# Altium footprint library Модули.PcbLib: 2 footprints
Each footprint in its own frame and in the unit in brackets; x right, y up, seen from the top. Pads: shape width x height; smd on the part's side, far side on the other; paste and mask are expansions set on the pad; w line width, h text height; cw(c..) or ccw(c..) is an arc to the next point about the centre after c.
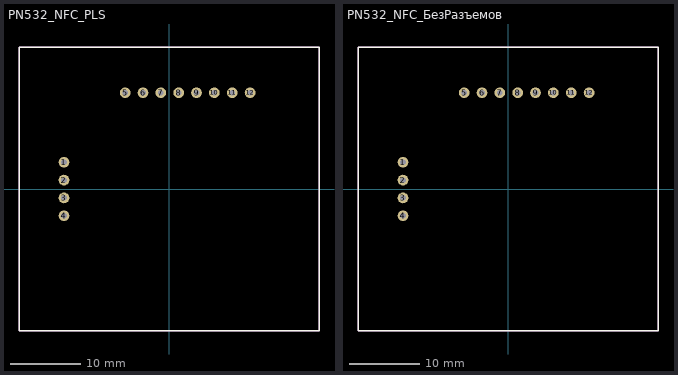
[diagram p0: the footprints below, top view; thin cyan lines are the x and y axes]

## PN532_NFC_PLS [mm]
pads (12):
  round 1.524 hole 0.8: 1(-14.95,3.81) 2(-14.95,1.27) 3(-14.95,-1.27) 4(-14.95,-3.81) 5(-6.24,13.7) 6(-3.7,13.7) 7(-1.16,13.7) 8(1.38,13.7) 9(3.92,13.7) 10(6.46,13.7) 11(9,13.7) 12(11.54,13.7)
Top Overlay:
  lines w0.2: -21.35,-20.2 -21.35,20.2 21.35,20.2 21.35,-20.2 -21.35,-20.2
Top Assy:
  lines w0.2: -21.35,-20.2 21.35,-20.2 21.35,20.2 -21.35,20.2 -21.35,-20.2
  text ".Designator" at 0,0 h1.52
3D body "PN532_NFC_PLS.STEP": height 9.45, standoff -1.6, extent -21.35,-20.2 21.35,20.2

## PN532_NFC_БезРазъемов [mm]
pads (12):
  round 1.524 hole 0.8: 1(-14.95,3.81) 2(-14.95,1.27) 3(-14.95,-1.27) 4(-14.95,-3.81) 5(-6.24,13.7) 6(-3.7,13.7) 7(-1.16,13.7) 8(1.38,13.7) 9(3.92,13.7) 10(6.46,13.7) 11(9,13.7) 12(11.54,13.7)
Top Overlay:
  lines w0.2: -21.35,-20.2 -21.35,20.2 21.35,20.2 21.35,-20.2 -21.35,-20.2
Top Assy:
  lines w0.2: -21.35,-20.2 21.35,-20.2 21.35,20.2 -21.35,20.2 -21.35,-20.2
  text ".Designator" at 0,0 h1.52
3D body "PN532_NFC_БезРазъемов.stp": height 6.95, standoff 0.5, extent -21.35,-20.2 21.35,20.2